# Altium schematic symbol library MolexKK254.SchLib: 7 symbols
Pins are listed as number, name and electrical type; pins without a type are passive.

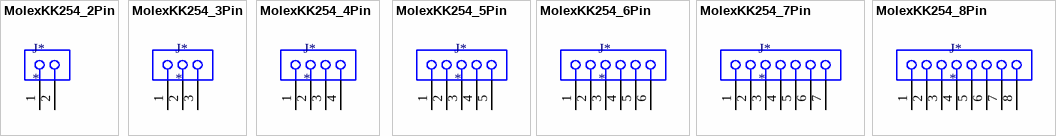
[diagram p0: symbols MolexKK254_2Pin to MolexKK254_8Pin]

## MolexKK254_2Pin
designator J*
NumPins: 3
footprint MolexKK254_2Pin
pins: 1, 2

## MolexKK254_3Pin
designator J*
NumPins: 3
footprint MolexKK254_3Pin
pins: 1, 2, 3

## MolexKK254_4Pin
designator J*
NumPins: 3
footprint MolexKK254_4Pin
pins: 1, 2, 3, 4

## MolexKK254_5Pin
designator J*
NumPins: 5
footprint MolexKK254_5Pin
pins: 1, 2, 3, 4, 5

## MolexKK254_6Pin
designator J*
NumPins: 6
footprint MolexKK254_6Pin
pins: 1, 2, 3, 4, 5, 6

## MolexKK254_7Pin
designator J*
NumPins: 7
footprint MolexKK254_7Pin
pins: 1, 2, 3, 4, 5, 6, 7

## MolexKK254_8Pin
designator J*
NumPins: 8
footprint MolexKK254_8Pin
pins: 1, 2, 3, 4, 5, 6, 7, 8